# EAGLE library part TA-101_CONNECTOR (library _mtvl.cells)
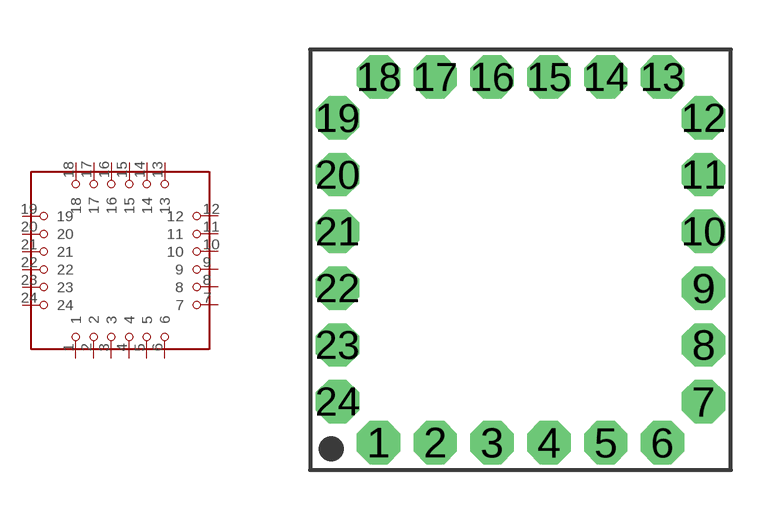
[diagram p6: symbol with the pads of TA-101; footprint TA-101]

Designator prefix -

## TA-101_CONNECTOR  [TA-101]
1  1
2  2
3  3
4  4
5  5
6  6
7  7
8  8
9  9
10  10
11  11
12  12
13  13
14  14
15  15
16  16
17  17
18  18
19  19
20  20
21  21
22  22
23  23
24  24

## Footprint TA-101 (pad centres in mm)
drill 0.8 octagon: 1 -4.286,-5.524; 2 -2.572,-5.524; 3 -0.857,-5.524; 4 0.857,-5.524; 5 2.572,-5.524; 6 4.286,-5.524; 7 5.524,-4.286; 8 5.524,-2.572; 9 5.524,-0.857; 10 5.524,0.857; 11 5.524,2.572; 12 5.524,4.286; 13 4.286,5.524; 14 2.572,5.524; 15 0.857,5.524; 16 -0.857,5.524; 17 -2.572,5.524; 18 -4.286,5.524; 19 -5.524,4.286; 20 -5.524,2.572; 21 -5.524,0.857; 22 -5.524,-0.857; 23 -5.524,-2.572; 24 -5.524,-4.286